# Altium schematic symbol library BMM150.SchLib: 1 symbol
Pins are listed as number, name and electrical type; pins without a type are passive.

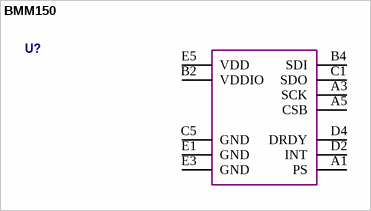
[diagram p0: symbol BMM150]

## BMM150
designator U?  (value not drawn)
pins: A1 PS, A3 SCK, A5 CSB, B2 VDDIO, B4 SDI, C1 SDO, C5 GND, D2 INT, D4 DRDY, E1 GND, E3 GND, E5 VDD